# Altium footprint library Si3404.PcbLib: 1 footprints
Each footprint in its own frame and in the unit in brackets; x right, y up, seen from the top. Pads: shape width x height; smd on the part's side, far side on the other; paste and mask are expansions set on the pad; w line width, h text height; cw(c..) or ccw(c..) is an arc to the next point about the centre after c.
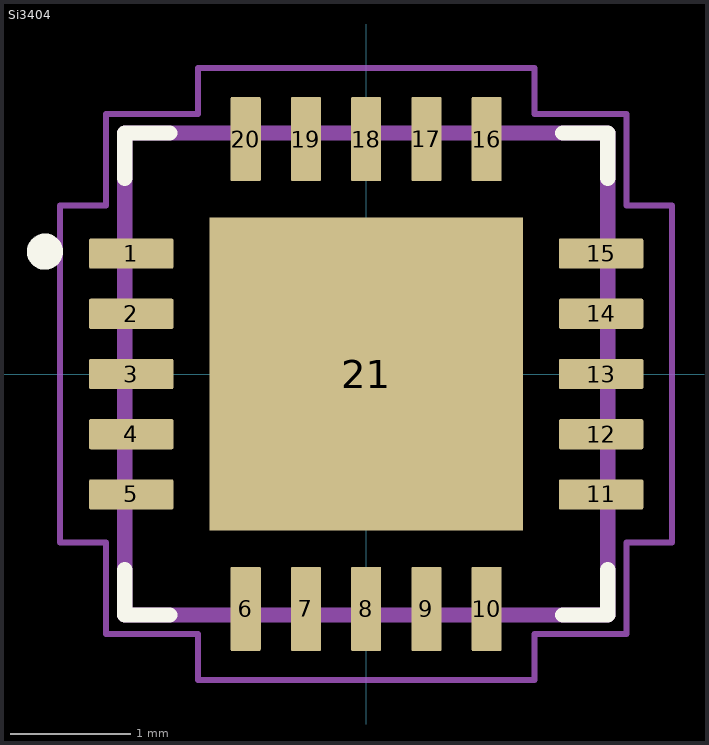
[diagram p0: the footprint, top view; thin cyan lines are the x and y axes]

## Si3404 [mm]
pads (21):
  rrect10% 0.7x0.25 smd: 1(-1.95,1) 2(-1.95,0.5) 3(-1.95,0) 4(-1.95,-0.5) 5(-1.95,-1) 11(1.95,-1) 12(1.95,-0.5) 13(1.95,0) 14(1.95,0.5) 15(1.95,1)
  rrect10% 0.25x0.7 smd: 6(-1,-1.95) 7(-0.5,-1.95) 8(0,-1.95) 9(0.5,-1.95) 10(1,-1.95) 16(1,1.95) 17(0.5,1.95) 18(0,1.95) 19(-0.5,1.95) 20(-1,1.95)
  rect 2.6x2.6 smd: 21(0,0)
Top Overlay:
  circle w0.15: c-2.667,1.016 r0.075
  lines w0.127: -2.005,-1.626 -2.005,-2 -1.631,-2 ; -2.005,1.626 -2.005,2 -1.631,2 ; 1.631,-2 2.005,-2 2.005,-1.626 ; 1.631,2 2.005,2 2.005,1.626
Top 3D Body:
  lines w0.127: -2.005,-2 2.005,-2 2.005,2 -2.005,2 -2.005,-2
Top Courtyard:
  lines w0.05: -2.54,-1.397 -2.159,-1.397 -2.159,-2.159 -1.397,-2.159 -1.397,-2.54 1.397,-2.54 1.397,-2.159 2.159,-2.159 2.159,-1.397 2.54,-1.397 2.54,1.397 2.159,1.397 2.159,2.159 1.397,2.159 1.397,2.54 -1.397,2.54 -1.397,2.159 -2.159,2.159 -2.159,1.397 -2.54,1.397 -2.54,-1.397
3D body "Si3404.STEP": height 0.85, standoff -0.02, extent -2.001,-2.001 2.001,2.001